# Altium footprint library 350543-1.PcbLib: 1 footprints
Each footprint in its own frame and in the unit in brackets; x right, y up, seen from the top. Pads: shape width x height; smd on the part's side, far side on the other; paste and mask are expansions set on the pad; w line width, h text height; cw(c..) or ccw(c..) is an arc to the next point about the centre after c.
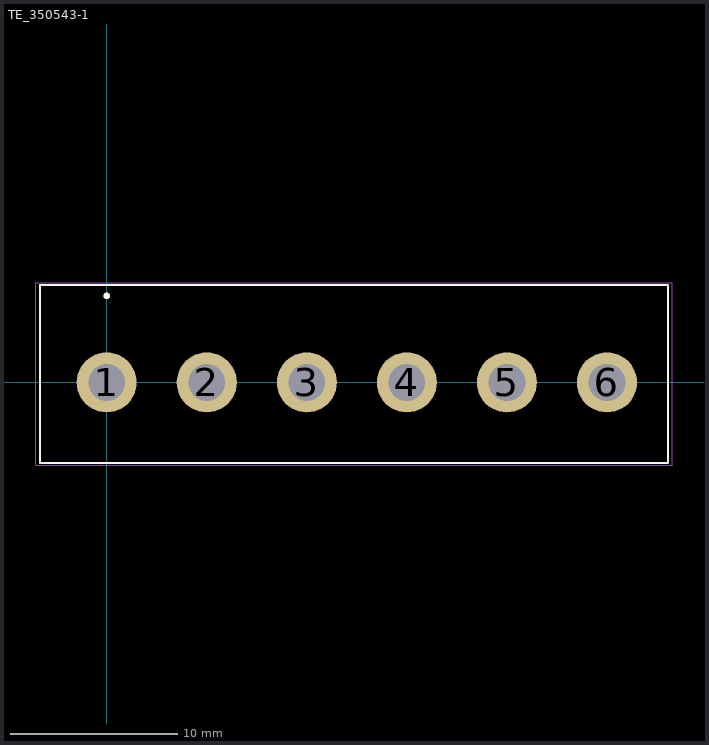
[diagram p0: the footprint, top view; thin cyan lines are the x and y axes]

## TE_350543-1 [mm]
pads (6):
  round 3.6 hole 2.2: 1(0,0) 2(6,0) 3(12,0) 4(18,0) 5(24,0) 6(30,0)
Top Overlay:
  circle w0.2: c0,5.191 r0.1
  lines w0.127: -4,-4.826 33.655,-4.826 33.655,5.842 -4,5.842 -4,-4.826
Mechanical 13:
  circle w0.2: c0,5.191 r0.1
  lines w0.127: -4,-4.826 33.655,-4.826 33.655,5.842 -4,5.842 -4,-4.826
Mechanical 15:
  lines w0.05: -4.25,-4.953 33.909,-4.953 33.909,5.969 -4.25,5.969 -4.25,-4.953